# EAGLE library part LOGIC_74HC14 (library !GPLIB_ACTIVE)
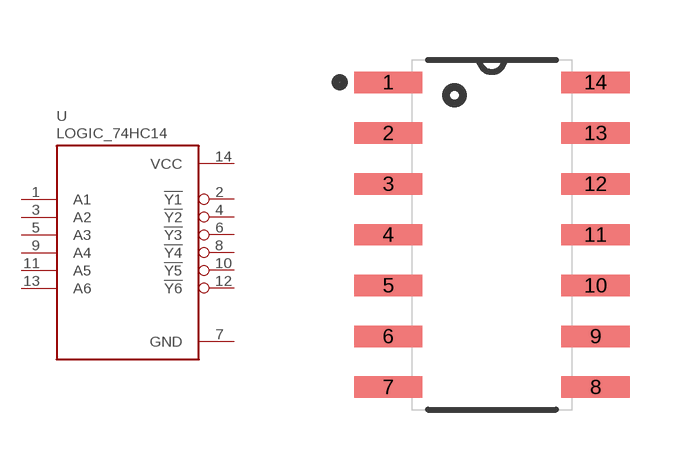
[diagram p64: symbol with the pads of SOIC127P600X175-14N; footprint SOIC127P600X175-14N]

Designator prefix U

## LOGIC_74HC14_74HC14D,653  [SOIC127P600X175-14N]
1  A1  in
2  !Y1  out
3  A2  in
4  !Y2  out
5  A3  in
6  !Y3  out
7  GND  pwr
8  !Y4  out
9  A4  in
10  !Y5  out
11  A5  in
12  !Y6  out
13  A6  in
14  VCC  pwr

## Footprint SOIC127P600X175-14N (pad centres in mm)
14-SOIC, 1.27mm pitch, 6.00mm span
smd 1.702 x 0.533: 1 -2.591,3.81; 2 -2.591,2.54; 3 -2.591,1.27; 4 -2.591,0; 5 -2.591,-1.27; 6 -2.591,-2.54; 7 -2.591,-3.81; 8 2.591,-3.81; 9 2.591,-2.54; 10 2.591,-1.27; 11 2.591,0; 12 2.591,1.27; 13 2.591,2.54; 14 2.591,3.81